# Altium footprint library TBP02R2W38108BE.PcbLib: 1 footprints
Each footprint in its own frame and in the unit in brackets; x right, y up, seen from the top. Pads: shape width x height; smd on the part's side, far side on the other; paste and mask are expansions set on the pad; w line width, h text height; cw(c..) or ccw(c..) is an arc to the next point about the centre after c.
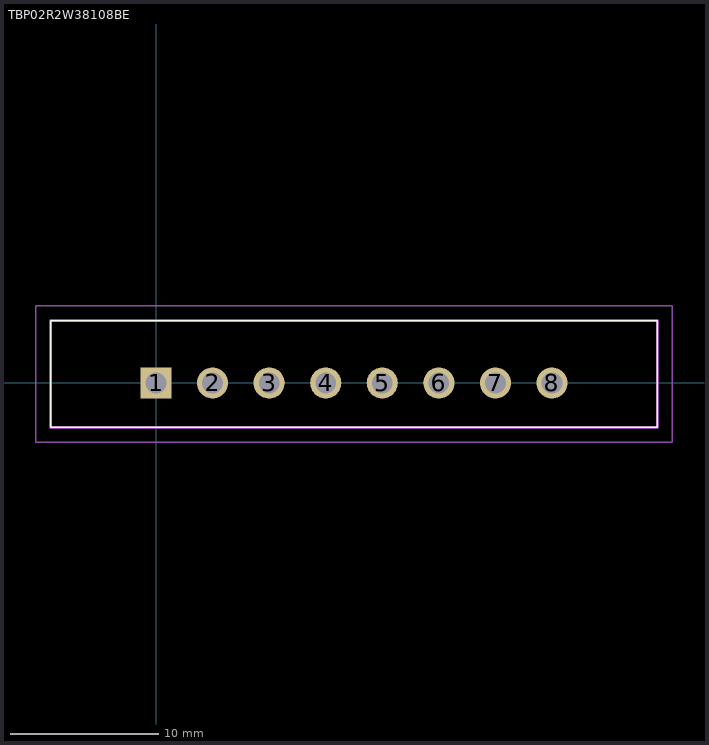
[diagram p0: the footprint, top view; thin cyan lines are the x and y axes]

## TBP02R2W38108BE [mm]
pads (8):
  rect 2.1x2.1 hole 1.4: 1(0,0)
  round 2.1 hole 1.4: 2(3.81,0) 3(7.62,0) 4(11.43,0) 5(15.24,0) 6(19.05,0) 7(22.86,0) 8(26.67,0)
Top Overlay:
  lines w0.1: -7.1,-3 33.77,-3 33.77,4.2 -7.1,4.2 -7.1,-3
Mechanical 15:
  lines w0.2: -7.1,-3 33.77,-3 33.77,4.2 -7.1,4.2 -7.1,-3
Mechanical 20:
  lines w0.1: -8.1,-4 34.77,-4 34.77,5.2 -8.1,5.2 -8.1,-4